# EAGLE library part SN74LVC1G175 (library pgrmcount)
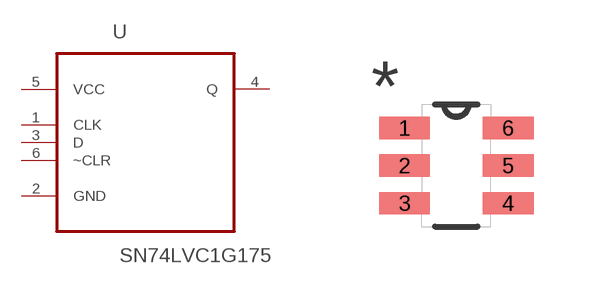
[diagram p0: symbol with the pads of SOT95P280X145-6N; footprint SOT95P280X145-6N]

Designator prefix U

## SN74LVC1G175  [SOT95P280X145-6N]
1  CLK  in
2  GND  pas
3  D  in
4  Q  out
5  VCC  pwr
6  ~CLR  in

## Footprint SOT95P280X145-6N (pad centres in mm)
smd 1.27 x 0.559: 1 -1.295,0.94; 2 -1.295,0; 3 -1.295,-0.94; 4 1.295,-0.94; 5 1.295,0; 6 1.295,0.94